# Altium footprint library HARTING Footprints.PcbLib: 317 footprints (part 8 of 20)
Each footprint in its own frame and in the unit in brackets; x right, y up, seen from the top. Pads: shape width x height; smd on the part's side, far side on the other; paste and mask are expansions set on the pad; w line width, h text height; cw(c..) or ccw(c..) is an arc to the next point about the centre after c.
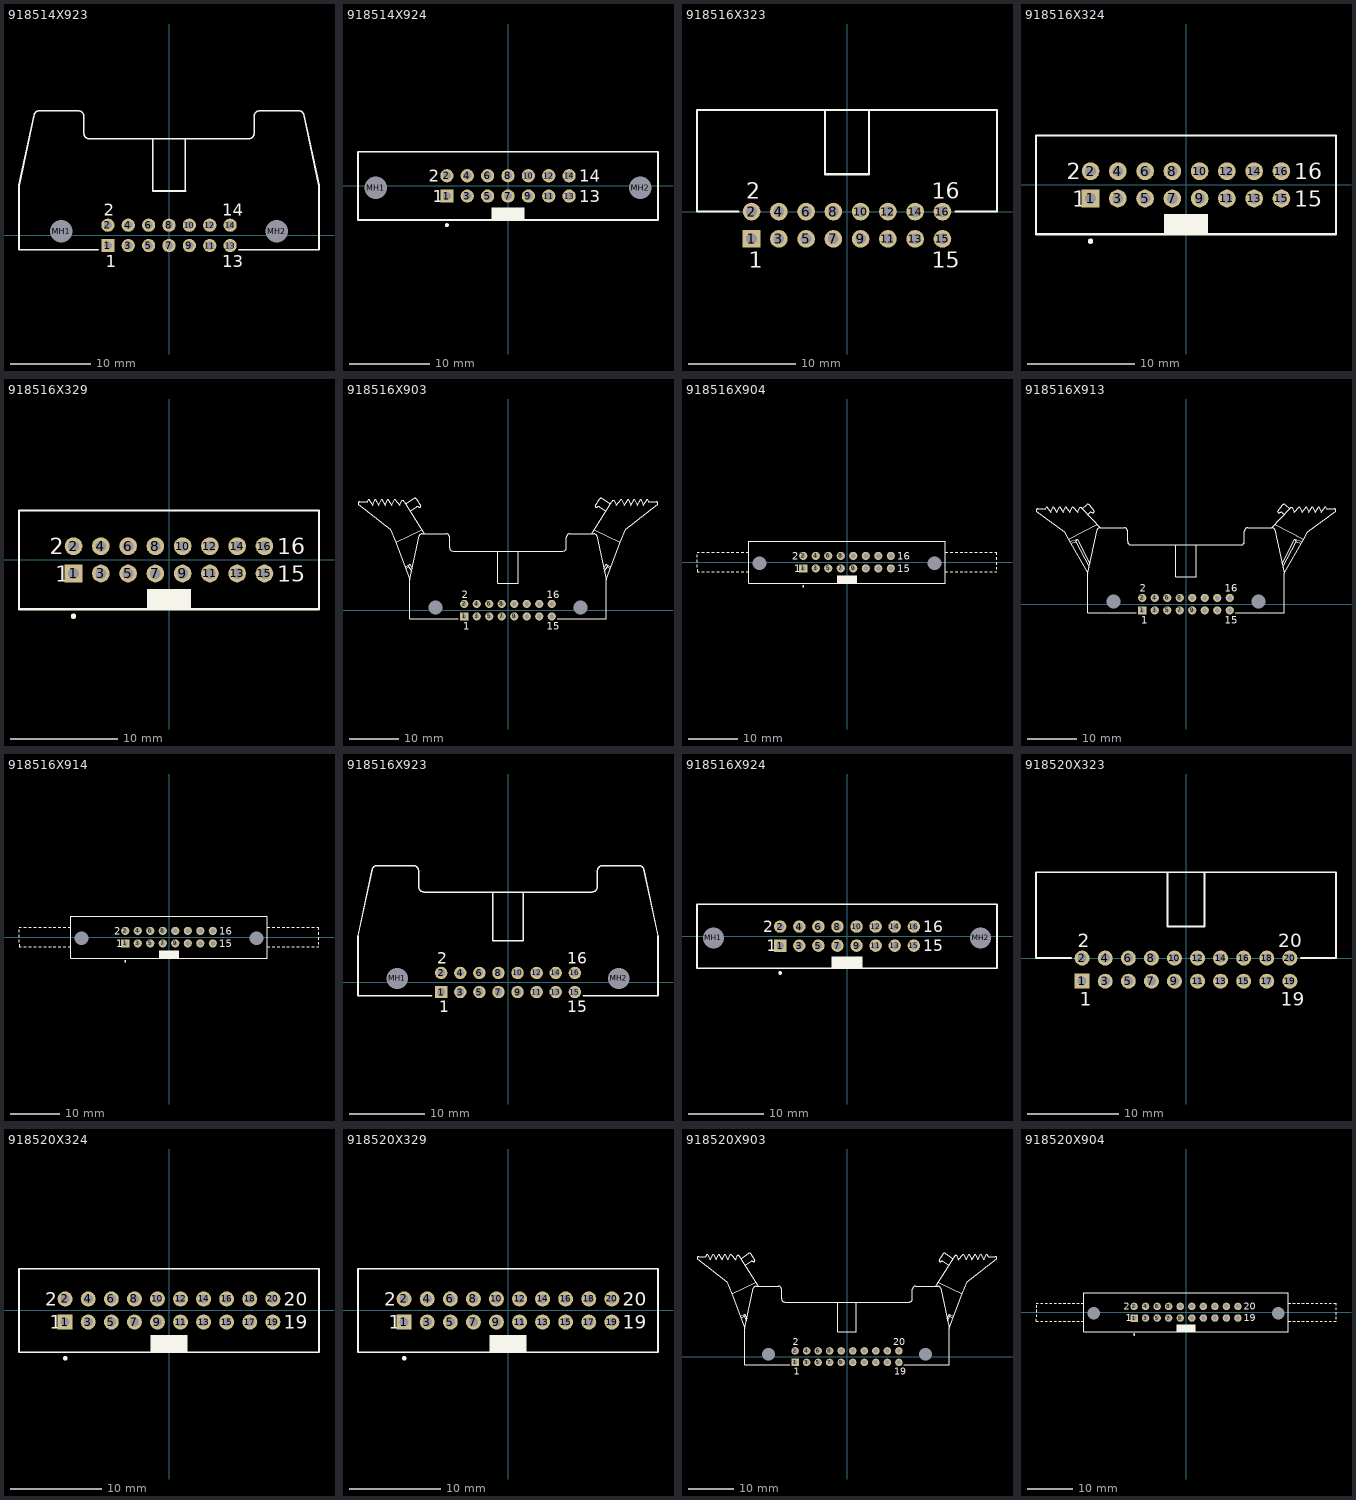
[diagram p7: the footprints below, top view; thin cyan lines are the x and y axes]

## 918514X923 [mm] "Connector; IDC, Thru-Hole; 14 Position; Right Angle; Pitch 2.54 mm; Body 37.40 x 8.5 x 17.30 mm (LxHxW), Without locking levers"
height 17.3
pads (16):
  rect 1.65x1.65 hole 1: 1(-7.62,-1.27)
  round 1.65 hole 1: 2(-7.62,1.27) 3(-5.08,-1.27) 4(-5.08,1.27) 5(-2.54,-1.27) 6(-2.54,1.27) 7(0,-1.27) 8(0,1.27) 9(2.54,-1.27) 10(2.54,1.27) 11(5.08,-1.27) 12(5.08,1.27) 13(7.62,-1.27) 14(7.62,1.27)
  round 2.5 hole 2.8 unplated: MH1(-13.46,0.53) MH2(13.46,0.53)
Top Overlay:
  lines w0.2: -8.845,-1.77 -18.7,-1.77 -18.7,6.23 -16.81,15.102 cw(c-16.165,14.83) -16.15,15.53 -11.305,15.53 cw(c-11.305,14.83) -10.605,14.83 -10.605,12.73 ccw(c-9.905,12.73) -9.905,12.03 9.905,12.03 ccw(c9.905,12.73) 10.605,12.73 10.605,14.83 cw(c11.305,14.83) 11.305,15.53 16.15,15.53 cw(c16.165,14.83) 16.81,15.102 18.7,6.23 18.7,-1.77 8.73,-1.77 ; -2.05,5.53 -2.05,12.03 ; -2.04,5.53 2.06,5.53 ; 2.05,5.534 2.05,12.03
  text "2" at -8.12,2.47 h1.5
  text "1" at -7.87,-3.97 h1.5
  text "14" at 6.62,2.47 h1.5
  text "13" at 6.62,-3.97 h1.5

## 918514X924 [mm] "Connector; IDC, Thru-Hole; 14 Position; Vertical; Pitch 2.54 mm; Body 37.40 x 8.5 x 17.30 mm (LxWxH), Without locking levers"
height 17.3
pads (16):
  rect 1.65x1.65 hole 1: 1(-7.62,-1.27)
  round 1.65 hole 1: 2(-7.62,1.27) 3(-5.08,-1.27) 4(-5.08,1.27) 5(-2.54,-1.27) 6(-2.54,1.27) 7(0,-1.27) 8(0,1.27) 9(2.54,-1.27) 10(2.54,1.27) 11(5.08,-1.27) 12(5.08,1.27) 13(7.62,-1.27) 14(7.62,1.27)
  round 2.5 hole 2.8 unplated: MH1(-16.51,-0.25) MH2(16.51,-0.25)
Top Overlay:
  circle w0.25: c-7.62,-4.9 r0.125
  rectangle: -2.05,-4.25 2.05,-2.7
  lines w0.2: -18.7,-4.25 18.7,-4.25 18.7,4.25 -18.7,4.25 -18.7,-4.25
  text "13" at 8.9,-2.02 h1.5
  text "14" at 8.9,0.52 h1.5
  text "1" at -9.4,-2.02 h1.5
  text "2" at -9.9,0.52 h1.5

## 918516X323 [mm] "Connector; IDC, Low Profile Male Header, Thru-Hole; 16 Position; Right Angle; Pitch 2.54 mm; Body 27.94 x 8.9 x 9.2 mm (LxWxH)"
height 9.2
pads (16):
  rect 1.65x1.65 hole 1: 1(-8.89,-2.54)
  round 1.65 hole 1: 2(-8.89,0) 3(-6.35,-2.54) 4(-6.35,0) 5(-3.81,-2.54) 6(-3.81,0) 7(-1.27,-2.54) 8(-1.27,0) 9(1.27,-2.54) 10(1.27,0) 11(3.81,-2.54) 12(3.81,0) 13(6.35,-2.54) 14(6.35,0) 15(8.89,-2.54) 16(8.89,0)
Top Overlay:
  lines w0.2: -10.115,0 -13.97,0 -13.97,9.45 13.97,9.45 13.97,0 10.115,0 ; -2.05,9.45 -2.05,3.48 2.05,3.48 2.05,9.45
  text "2" at -9.39,1.2 h1.5
  text "1" at -9.14,-5.24 h1.5
  text "16" at 7.89,1.2 h1.5
  text "15" at 7.89,-5.24 h1.5

## 918516X324 [mm] "Connector; IDC, Low Profile Male Header, Thru-Hole; 16 Position; Vertical; Pitch 2.54 mm; Body 27.94 x 9.2 x 9.45 mm (LxWxH)"
height 9.45
pads (16):
  rect 1.65x1.65 hole 1: 1(-8.89,-1.27)
  round 1.65 hole 1: 2(-8.89,1.27) 3(-6.35,-1.27) 4(-6.35,1.27) 5(-3.81,-1.27) 6(-3.81,1.27) 7(-1.27,-1.27) 8(-1.27,1.27) 9(1.27,-1.27) 10(1.27,1.27) 11(3.81,-1.27) 12(3.81,1.27) 13(6.35,-1.27) 14(6.35,1.27) 15(8.89,-1.27) 16(8.89,1.27)
Top Overlay:
  circle w0.25: c-8.89,-5.25 r0.125
  rectangle: -2.05,-4.6 2.05,-2.7
  lines w0.2: -13.97,-4.6 -13.97,4.6 13.97,4.6 13.97,-4.6 -13.97,-4.6
  text "2" at -11.09,0.52 h1.5
  text "1" at -10.59,-2.02 h1.5
  text "16" at 10.09,0.52 h1.5
  text "15" at 10.09,-2.02 h1.5

## 918516X329 [mm] "Connector; IDC, Straight Press-in Pin, Thru-Hole; 16 Position; Vertical; Pitch 2.54 mm; Body 27.94 x 9.2 x 9.45 mm (LxWxH)"
height 9.45
pads (16):
  rect 1.65x1.65 hole 1: 1(-8.89,-1.27)
  round 1.65 hole 1: 2(-8.89,1.27) 3(-6.35,-1.27) 4(-6.35,1.27) 5(-3.81,-1.27) 6(-3.81,1.27) 7(-1.27,-1.27) 8(-1.27,1.27) 9(1.27,-1.27) 10(1.27,1.27) 11(3.81,-1.27) 12(3.81,1.27) 13(6.35,-1.27) 14(6.35,1.27) 15(8.89,-1.27) 16(8.89,1.27)
Top Overlay:
  circle w0.25: c-8.89,-5.25 r0.125
  rectangle: -2.05,-4.6 2.05,-2.7
  lines w0.2: -13.97,-4.6 -13.97,4.6 13.97,4.6 13.97,-4.6 -13.97,-4.6
  text "2" at -11.09,0.52 h1.5
  text "1" at -10.59,-2.02 h1.5
  text "16" at 10.09,0.52 h1.5
  text "15" at 10.09,-2.02 h1.5

## 918516X903 [mm] "Connector; IDC, Thru-Hole; 16 Position; Right Angle; Pitch 2.54 mm; Body 39.90 x 8.5 x 25.75 mm (LxHxW), Locking levers"
height 25.75
pads (18):
  rect 1.65x1.65 hole 1: 1(-8.89,-1.27)
  round 1.65 hole 1: 2(-8.89,1.27) 3(-6.35,-1.27) 4(-6.35,1.27) 5(-3.81,-1.27) 6(-3.81,1.27) 7(-1.27,-1.27) 8(-1.27,1.27) 9(1.27,-1.27) 10(1.27,1.27) 11(3.81,-1.27) 12(3.81,1.27) 13(6.35,-1.27) 14(6.35,1.27) 15(8.89,-1.27) 16(8.89,1.27)
  round 2.5 hole 2.8 unplated: MH1(-14.73,0.53) MH2(14.73,0.53)
Top Overlay:
  lines w0.2: -20.92,8.851 -19.955,9.3 ; -20.791,8.563 -20.12,8.877 ; -20.785,21.6 -19.062,22.725 cw(c-18.913,22.387) -18.647,22.644 -17.722,21.245 cw(c-18.042,21.225) -18.094,20.91 ccw(c-18.362,20.595) -18.497,20.985 ; -19.863,20.103 -18.5,20.991 ; -19.593,7.925 -20.12,8.877 ; -19.493,8.378 -19.955,9.3 ; -17.565,16.383 -22.789,13.84 ; -16.994,15.53 -21.128,22.058 ccw(c-21.451,21.956) -21.593,22.265 -22,21.301 -23.03,22.501 -23.66,21.301 -24.41,22.501 -24.96,21.301 -25.66,22.501 -26.28,21.301 -26.93,22.501 -27.53,21.301 -28.275,22.501 ; -10.115,-1.77 -19.95,-1.77 -19.95,6.23 ; -2.05,5.53 -2.05,12.03 ; -2.04,5.53 2.06,5.53 ; 2.05,5.534 2.05,12.03 ; 10,-1.77 19.95,-1.77 19.95,6.23 ; 16.994,15.53 21.128,22.058 cw(c21.451,21.956) 21.593,22.265 22,21.301 23.03,22.501 23.66,21.301 24.41,22.501 24.96,21.301 25.66,22.501 26.28,21.301 26.93,22.501 27.53,21.301 28.275,22.501 ; 17.565,16.383 22.789,13.84 ; 18.497,20.985 ccw(c18.362,20.595) 18.094,20.91 cw(c18.042,21.225) 17.722,21.245 18.647,22.644 cw(c18.913,22.387) 19.062,22.725 20.785,21.6 ; 18.5,20.991 19.863,20.103 ; 19.493,8.378 19.955,9.3 ; 19.593,7.925 20.12,8.877 ; 20.791,8.563 20.12,8.877 ; 20.92,8.851 19.955,9.3 ; -28.53,22.03 -28.275,22.501 ; -28.53,22.03 -28.275,22.501 ; -28.53,22.03 -30.141,22.03 ccw(c-30.141,21.69) -30.45,21.549 -23.915,16.455 -22.789,13.84 ; -22.789,13.84 -19.95,6.23 ; -20.12,8.877 -19.955,9.3 ; -19.95,6.23 -18.06,15.102 cw(c-17.415,14.83) -17.4,15.53 -12.575,15.53 cw(c-12.575,14.83) -11.875,14.83 -11.875,12.73 ccw(c-11.175,12.73) -11.175,12.03 11.175,12.03 ccw(c11.175,12.73) 11.875,12.73 11.875,14.83 cw(c12.575,14.83) 12.575,15.53 17.4,15.53 cw(c17.415,14.83) 18.06,15.102 19.95,6.23 ; 19.95,6.23 22.789,13.84 ; 19.955,9.3 20.12,8.877 ; 22.789,13.84 23.915,16.455 30.45,21.549 ccw(c30.141,21.69) 30.141,22.03 28.53,22.03 ; 28.275,22.501 28.53,22.03 ; 28.275,22.501 28.53,22.03
  text "15" at 7.89,-3.97 h1.5
  text "16" at 7.89,2.47 h1.5
  text "1" at -9.14,-3.97 h1.5
  text "2" at -9.39,2.47 h1.5

## 918516X904 [mm] "Connector; IDC, Thru-Hole; 16 Position; Vertical; Pitch 2.54 mm; Body 39.90 x 8.5 x 25.75 mm (LxWxH), Locking levers"
height 25.75
pads (18):
  rect 1.65x1.65 hole 1: 1(-8.89,-1.27)
  round 1.65 hole 1: 2(-8.89,1.27) 3(-6.35,-1.27) 4(-6.35,1.27) 5(-3.81,-1.27) 6(-3.81,1.27) 7(-1.27,-1.27) 8(-1.27,1.27) 9(1.27,-1.27) 10(1.27,1.27) 11(3.81,-1.27) 12(3.81,1.27) 13(6.35,-1.27) 14(6.35,1.27) 15(8.89,-1.27) 16(8.89,1.27)
  round 2.5 hole 2.8 unplated: MH1(-17.78,-0.25) MH2(17.78,-0.25)
Top Overlay:
  circle w0.25: c-8.89,-4.9 r0.125
  rectangle: -2.05,-4.25 2.05,-2.7
  lines w0.2: -30.46,-1.5 -30.45,-2 -29.96,-2 ; -30.45,-1 -30.45,-0.5 ; -30.45,0 -30.45,0.5 ; -30.45,1 -30.45,1.5 ; -30.45,2 -29.96,2 ; -29.46,-2 -28.96,-2 ; -29.46,2 -28.96,2 ; -28.46,-2 -27.96,-2 ; -28.46,2 -27.96,2 ; -27.46,-2 -26.96,-2 ; -27.46,2 -26.96,2 ; -26.46,-2 -25.96,-2 ; -26.46,2 -25.96,2 ; -25.46,-2 -24.96,-2 ; -25.46,2 -24.96,2 ; -24.46,-2 -23.96,-2 ; -24.46,2 -23.96,2 ; -23.46,-2 -22.96,-2 ; -23.46,2 -22.96,2 ; -22.46,-2 -21.96,-2 ; -22.46,2 -21.96,2 ; -21.46,-2 -20.96,-2 ; -21.46,2 -20.96,2 ; -20.46,-2 -19.95,-2 ; -20.46,2 -19.95,2 ; 19.95,-2 20.45,-2 ; 19.95,2 20.45,2 ; 20.95,-2 21.45,-2 ; 20.95,2 21.45,2 ; 21.95,-2 22.45,-2 ; 21.95,2 22.45,2 ; 22.95,-2 23.45,-2 ; 22.95,2 23.45,2 ; 23.95,-2 24.45,-2 ; 23.95,2 24.45,2 ; 24.95,-2 25.45,-2 ; 24.95,2 25.45,2 ; 25.95,-2 26.45,-2 ; 25.95,2 26.45,2 ; 26.95,-2 27.45,-2 ; 26.95,2 27.45,2 ; 27.95,-2 28.45,-2 ; 27.95,2 28.45,2 ; 28.95,-2 29.45,-2 ; 28.95,2 29.45,2 ; 29.95,-2 30.45,-2 ; 29.95,2 30.45,2 30.45,1.5 ; 30.45,-1.5 30.45,-1 ; 30.45,-0.5 30.45,0 ; 30.45,0.5 30.45,1 ; -19.95,-4.25 -19.95,4.25 19.95,4.25 19.95,-4.25 -19.95,-4.25
  text "2" at -11.17,0.52 h1.5
  text "1" at -10.67,-2.02 h1.5
  text "16" at 10.17,0.52 h1.5
  text "15" at 10.17,-2.02 h1.5

## 918516X913 [mm] "Connector; IDC, Thru-Hole; 16 Position; Right Angle; Pitch 2.54 mm; Body 39.90 x 8.5 x 23.30 mm (LxHxW), Locking levers"
height 23.3
pads (18):
  rect 1.65x1.65 hole 1: 1(-8.89,-1.27)
  round 1.65 hole 1: 2(-8.89,1.27) 3(-6.35,-1.27) 4(-6.35,1.27) 5(-3.81,-1.27) 6(-3.81,1.27) 7(-1.27,-1.27) 8(-1.27,1.27) 9(1.27,-1.27) 10(1.27,1.27) 11(3.81,-1.27) 12(3.81,1.27) 13(6.35,-1.27) 14(6.35,1.27) 15(8.89,-1.27) 16(8.89,1.27)
  round 2.5 hole 2.8 unplated: MH1(-14.73,0.53) MH2(14.73,0.53)
Top Overlay:
  lines w0.2: -23.619,12.722 -22.131,13.218 ; -23.391,12.377 -22.373,12.716 ; -19.988,18.198 -19.423,18.617 cw(c-19.287,18.227) -19.02,18.542 ccw(c-18.967,18.857) -18.648,18.877 -19.707,20.156 ccw(c-19.973,19.899) -20.122,20.238 -21.128,19.388 ; -19.703,7.442 -22.373,12.716 ; -19.556,8.195 -22.131,13.218 ; -18.07,16.204 -23.889,13.199 ; -17.46,15.53 -12.575,15.53 cw(c-12.575,14.83) -11.875,14.83 -11.875,12.73 ccw(c-11.175,12.73) -11.175,12.03 11.175,12.03 ccw(c11.175,12.73) 11.875,12.73 11.875,14.83 cw(c12.575,14.83) 12.575,15.53 17.46,15.53 ; -17.457,15.533 -21.128,19.388 ; -17.4,15.53 ccw(c-17.415,14.83) -18.06,15.102 -19.95,6.23 ; -10.115,-1.77 -19.95,-1.77 -19.95,6.23 ; -2.05,5.53 -2.05,12.03 ; -2.04,5.53 2.06,5.53 ; 2.05,5.534 2.05,12.03 ; 10,-1.77 19.95,-1.77 19.95,6.23 ; 17.4,15.53 cw(c17.415,14.83) 18.06,15.102 19.95,6.23 ; 17.457,15.533 21.128,19.388 ; 18.07,16.204 23.889,13.199 ; 19.556,8.195 22.131,13.218 ; 19.703,7.442 22.373,12.716 ; 19.988,18.198 19.423,18.617 ccw(c19.287,18.227) 19.02,18.542 cw(c18.967,18.857) 18.648,18.877 19.707,20.156 cw(c19.973,19.899) 20.122,20.238 21.128,19.388 ; 23.391,12.377 22.373,12.716 ; 23.619,12.722 22.131,13.218 ; -28.53,19.359 -30.141,19.359 ccw(c-30.141,19.02) -30.45,18.879 -24.695,14.654 -23.889,13.199 ; -28.53,19.359 -28.274,19.83 ; -28.53,19.359 -28.274,19.83 ; -28.274,19.83 -27.53,18.63 -26.93,19.83 -26.28,18.63 -25.66,19.83 -24.96,18.63 -24.41,19.83 -23.66,18.63 -23.03,19.83 -22,18.63 -21.593,19.594 cw(c-21.451,19.285) -21.128,19.388 ; -23.889,13.199 -19.95,6.23 ; -22.373,12.716 -22.131,13.218 ; 19.95,6.23 23.889,13.199 ; 21.128,19.388 cw(c21.451,19.285) 21.593,19.594 22,18.63 23.03,19.83 23.66,18.63 24.41,19.83 24.96,18.63 25.66,19.83 26.28,18.63 26.93,19.83 27.53,18.63 28.274,19.83 ; 22.131,13.218 22.373,12.716 ; 23.889,13.199 24.695,14.654 30.45,18.879 ccw(c30.141,19.02) 30.141,19.359 28.53,19.359 ; 28.274,19.83 28.53,19.359 ; 28.274,19.83 28.53,19.359
  text "15" at 7.89,-3.97 h1.5
  text "16" at 7.89,2.47 h1.5
  text "1" at -9.14,-3.97 h1.5
  text "2" at -9.39,2.47 h1.5

## 918516X914 [mm] "Connector; IDC, Thru-Hole; 16 Position; Vertical; Pitch 2.54 mm; Body 39.90 x 8.5 x 23.30 mm (LxWxH), Locking levers"
height 23.3
pads (18):
  rect 1.65x1.65 hole 1: 1(-8.89,-1.27)
  round 1.65 hole 1: 2(-8.89,1.27) 3(-6.35,-1.27) 4(-6.35,1.27) 5(-3.81,-1.27) 6(-3.81,1.27) 7(-1.27,-1.27) 8(-1.27,1.27) 9(1.27,-1.27) 10(1.27,1.27) 11(3.81,-1.27) 12(3.81,1.27) 13(6.35,-1.27) 14(6.35,1.27) 15(8.89,-1.27) 16(8.89,1.27)
  round 2.5 hole 2.8 unplated: MH1(-17.78,-0.25) MH2(17.78,-0.25)
Top Overlay:
  circle w0.25: c-8.89,-4.9 r0.125
  rectangle: -2.05,-4.25 2.05,-2.7
  lines w0.2: -30.46,-1.5 -30.45,-2 -29.96,-2 ; -30.45,-1 -30.45,-0.5 ; -30.45,0 -30.45,0.5 ; -30.45,1 -30.45,1.5 ; -30.45,2 -29.96,2 ; -29.46,-2 -28.96,-2 ; -29.46,2 -28.96,2 ; -28.46,-2 -27.96,-2 ; -28.46,2 -27.96,2 ; -27.46,-2 -26.96,-2 ; -27.46,2 -26.96,2 ; -26.46,-2 -25.96,-2 ; -26.46,2 -25.96,2 ; -25.46,-2 -24.96,-2 ; -25.46,2 -24.96,2 ; -24.46,-2 -23.96,-2 ; -24.46,2 -23.96,2 ; -23.46,-2 -22.96,-2 ; -23.46,2 -22.96,2 ; -22.46,-2 -21.96,-2 ; -22.46,2 -21.96,2 ; -21.46,-2 -20.96,-2 ; -21.46,2 -20.96,2 ; -20.46,-2 -19.95,-2 ; -20.46,2 -19.95,2 ; 19.95,-2 20.45,-2 ; 19.95,2 20.45,2 ; 20.95,-2 21.45,-2 ; 20.95,2 21.45,2 ; 21.95,-2 22.45,-2 ; 21.95,2 22.45,2 ; 22.95,-2 23.45,-2 ; 22.95,2 23.45,2 ; 23.95,-2 24.45,-2 ; 23.95,2 24.45,2 ; 24.95,-2 25.45,-2 ; 24.95,2 25.45,2 ; 25.95,-2 26.45,-2 ; 25.95,2 26.45,2 ; 26.95,-2 27.45,-2 ; 26.95,2 27.45,2 ; 27.95,-2 28.45,-2 ; 27.95,2 28.45,2 ; 28.95,-2 29.45,-2 ; 28.95,2 29.45,2 ; 29.95,-2 30.45,-2 ; 29.95,2 30.45,2 30.45,1.5 ; 30.45,-1.5 30.45,-1 ; 30.45,-0.5 30.45,0 ; 30.45,0.5 30.45,1 ; -19.95,-4.25 -19.95,4.25 19.95,4.25 19.95,-4.25 -19.95,-4.25
  text "2" at -11.17,0.52 h1.5
  text "1" at -10.67,-2.02 h1.5
  text "16" at 10.17,0.52 h1.5
  text "15" at 10.17,-2.02 h1.5

## 918516X923 [mm] "Connector; IDC, Thru-Hole; 16 Position; Right Angle; Pitch 2.54 mm; Body 39.90 x 8.5 x 17.30 mm (LxHxW), Without locking levers"
height 17.3
pads (18):
  rect 1.65x1.65 hole 1: 1(-8.89,-1.27)
  round 1.65 hole 1: 2(-8.89,1.27) 3(-6.35,-1.27) 4(-6.35,1.27) 5(-3.81,-1.27) 6(-3.81,1.27) 7(-1.27,-1.27) 8(-1.27,1.27) 9(1.27,-1.27) 10(1.27,1.27) 11(3.81,-1.27) 12(3.81,1.27) 13(6.35,-1.27) 14(6.35,1.27) 15(8.89,-1.27) 16(8.89,1.27)
  round 2.5 hole 2.8 unplated: MH1(-14.73,0.53) MH2(14.73,0.53)
Top Overlay:
  lines w0.2: -10.115,-1.77 -19.95,-1.77 -19.95,6.23 -18.06,15.102 cw(c-17.415,14.83) -17.4,15.53 -12.575,15.53 cw(c-12.575,14.83) -11.875,14.83 -11.875,12.73 ccw(c-11.175,12.73) -11.175,12.03 11.175,12.03 ccw(c11.175,12.73) 11.875,12.73 11.875,14.83 cw(c12.575,14.83) 12.575,15.53 17.4,15.53 cw(c17.415,14.83) 18.06,15.102 19.95,6.23 19.95,-1.77 10,-1.77 ; -2.05,5.53 -2.05,12.03 ; -2.04,5.53 2.06,5.53 ; 2.05,5.534 2.05,12.03
  text "15" at 7.89,-3.97 h1.5
  text "16" at 7.89,2.47 h1.5
  text "1" at -9.14,-3.97 h1.5
  text "2" at -9.39,2.47 h1.5

## 918516X924 [mm] "Connector; IDC, Thru-Hole; 16 Position; Vertical; Pitch 2.54 mm; Body 39.90 x 8.5 x 17.30 mm (LxWxH), Without locking levers"
height 17.3
pads (18):
  rect 1.65x1.65 hole 1: 1(-8.89,-1.27)
  round 1.65 hole 1: 2(-8.89,1.27) 3(-6.35,-1.27) 4(-6.35,1.27) 5(-3.81,-1.27) 6(-3.81,1.27) 7(-1.27,-1.27) 8(-1.27,1.27) 9(1.27,-1.27) 10(1.27,1.27) 11(3.81,-1.27) 12(3.81,1.27) 13(6.35,-1.27) 14(6.35,1.27) 15(8.89,-1.27) 16(8.89,1.27)
  round 2.5 hole 2.8 unplated: MH1(-17.78,-0.25) MH2(17.78,-0.25)
Top Overlay:
  circle w0.25: c-8.89,-4.9 r0.125
  rectangle: -2.05,-4.25 2.05,-2.7
  lines w0.2: -19.95,-4.25 19.95,-4.25 19.95,4.25 -19.95,4.25 -19.95,-4.25
  text "15" at 10.17,-2.02 h1.5
  text "16" at 10.17,0.52 h1.5
  text "1" at -10.67,-2.02 h1.5
  text "2" at -11.17,0.52 h1.5

## 918520X323 [mm] "Connector; IDC, Low Profile Male Header, Thru-Hole; 20 Position; Right Angle; Pitch 2.54 mm; Body 33.02 x 8.9 x 9.2 mm (LxWxH)"
height 9.2
pads (20):
  rect 1.65x1.65 hole 1: 1(-11.43,-2.54)
  round 1.65 hole 1: 2(-11.43,0) 3(-8.89,-2.54) 4(-8.89,0) 5(-6.35,-2.54) 6(-6.35,0) 7(-3.81,-2.54) 8(-3.81,0) 9(-1.27,-2.54) 10(-1.27,0) 11(1.27,-2.54) 12(1.27,0) 13(3.81,-2.54) 14(3.81,0) 15(6.35,-2.54) 16(6.35,0) 17(8.89,-2.54) 18(8.89,0) 19(11.43,-2.54) 20(11.43,0)
Top Overlay:
  lines w0.2: -12.655,0 -16.51,0 -16.51,9.45 16.51,9.45 16.51,0 12.655,0 ; -2.05,9.45 -2.05,3.48 2.05,3.48 2.05,9.45
  text "2" at -11.93,1.2 h1.5
  text "1" at -11.68,-5.24 h1.5
  text "20" at 10.18,1.2 h1.5
  text "19" at 10.43,-5.24 h1.5

## 918520X324 [mm] "Connector; IDC, Low Profile Male Header, Thru-Hole; 20 Position; Vertical; Pitch 2.54 mm; Body 33.02 x 9.2 x 9.45 mm (LxWxH)"
height 9.45
pads (20):
  rect 1.65x1.65 hole 1: 1(-11.43,-1.27)
  round 1.65 hole 1: 2(-11.43,1.27) 3(-8.89,-1.27) 4(-8.89,1.27) 5(-6.35,-1.27) 6(-6.35,1.27) 7(-3.81,-1.27) 8(-3.81,1.27) 9(-1.27,-1.27) 10(-1.27,1.27) 11(1.27,-1.27) 12(1.27,1.27) 13(3.81,-1.27) 14(3.81,1.27) 15(6.35,-1.27) 16(6.35,1.27) 17(8.89,-1.27) 18(8.89,1.27) 19(11.43,-1.27) 20(11.43,1.27)
Top Overlay:
  circle w0.25: c-11.43,-5.25 r0.125
  rectangle: -2.05,-4.6 2.05,-2.7
  lines w0.2: -16.51,-4.6 16.51,-4.6 16.51,4.6 -16.51,4.6 -16.51,-4.6
  text "19" at 12.63,-2.02 h1.5
  text "20" at 12.63,0.52 h1.5
  text "1" at -13.13,-2.02 h1.5
  text "2" at -13.63,0.52 h1.5

## 918520X329 [mm] "Connector; IDC, Straight Press-in Pin, Thru-Hole; 20 Position; Vertical; Pitch 2.54 mm; Body 33.02 x 9.2 x 9.45 mm (LxWxH)"
height 9.45
pads (20):
  rect 1.65x1.65 hole 1: 1(-11.43,-1.27)
  round 1.65 hole 1: 2(-11.43,1.27) 3(-8.89,-1.27) 4(-8.89,1.27) 5(-6.35,-1.27) 6(-6.35,1.27) 7(-3.81,-1.27) 8(-3.81,1.27) 9(-1.27,-1.27) 10(-1.27,1.27) 11(1.27,-1.27) 12(1.27,1.27) 13(3.81,-1.27) 14(3.81,1.27) 15(6.35,-1.27) 16(6.35,1.27) 17(8.89,-1.27) 18(8.89,1.27) 19(11.43,-1.27) 20(11.43,1.27)
Top Overlay:
  circle w0.25: c-11.43,-5.25 r0.125
  rectangle: -2.05,-4.6 2.05,-2.7
  lines w0.2: -16.51,-4.6 16.51,-4.6 16.51,4.6 -16.51,4.6 -16.51,-4.6
  text "19" at 12.63,-2.02 h1.5
  text "20" at 12.63,0.52 h1.5
  text "1" at -13.13,-2.02 h1.5
  text "2" at -13.63,0.52 h1.5

## 918520X903 [mm] "Connector; IDC, Thru-Hole; 20 Position; Right Angle; Pitch 2.54 mm; Body 45.00 x 8.5 x 25.75 mm (LxHxW), Locking levers"
height 25.75
pads (22):
  rect 1.65x1.65 hole 1: 1(-11.43,-1.27)
  round 1.65 hole 1: 2(-11.43,1.27) 3(-8.89,-1.27) 4(-8.89,1.27) 5(-6.35,-1.27) 6(-6.35,1.27) 7(-3.81,-1.27) 8(-3.81,1.27) 9(-1.27,-1.27) 10(-1.27,1.27) 11(1.27,-1.27) 12(1.27,1.27) 13(3.81,-1.27) 14(3.81,1.27) 15(6.35,-1.27) 16(6.35,1.27) 17(8.89,-1.27) 18(8.89,1.27) 19(11.43,-1.27) 20(11.43,1.27)
  round 2.5 hole 2.8 unplated: MH1(-17.27,0.53) MH2(17.27,0.53)
Top Overlay:
  lines w0.2: -23.47,8.851 -22.505,9.3 ; -23.341,8.563 -22.67,8.877 ; -23.335,21.6 -21.612,22.725 cw(c-21.463,22.387) -21.197,22.644 -20.272,21.245 cw(c-20.592,21.225) -20.644,20.91 ccw(c-20.912,20.595) -21.047,20.985 ; -22.413,20.103 -21.05,20.991 ; -22.143,7.925 -22.67,8.877 ; -22.043,8.378 -22.505,9.3 ; -20.61,15.102 -22.5,6.23 ; -20.61,15.102 cw(c-19.965,14.83) -19.95,15.53 ; -20.115,16.383 -25.339,13.84 ; -19.94,15.53 -15.115,15.53 ; -19.544,15.53 -23.678,22.058 ccw(c-24.001,21.956) -24.143,22.265 -24.55,21.301 -25.58,22.501 -26.21,21.301 -26.96,22.501 -27.51,21.301 -28.21,22.501 -28.83,21.301 -29.48,22.501 -30.08,21.301 -30.825,22.501 ; -15.115,15.53 cw(c-15.115,14.83) -14.415,14.83 -14.415,12.73 ccw(c-13.715,12.73) -13.715,12.03 13.715,12.03 ccw(c13.715,12.73) 14.415,12.73 14.415,14.83 cw(c15.115,14.83) 15.115,15.53 19.94,15.53 ; -12.655,-1.77 -22.5,-1.77 -22.5,6.23 ; -2.05,5.53 -2.05,12.03 ; -2.04,5.53 2.06,5.53 ; 2.05,5.534 2.05,12.03 ; 12.54,-1.77 22.5,-1.77 22.5,6.23 ; 19.544,15.53 23.678,22.058 cw(c24.001,21.956) 24.143,22.265 24.55,21.301 25.58,22.501 26.21,21.301 26.96,22.501 27.51,21.301 28.21,22.501 28.83,21.301 29.48,22.501 30.08,21.301 30.825,22.501 ; 19.95,15.53 cw(c19.965,14.83) 20.61,15.102 22.5,6.23 ; 20.115,16.383 25.339,13.84 ; 21.047,20.985 ccw(c20.912,20.595) 20.644,20.91 cw(c20.592,21.225) 20.272,21.245 21.197,22.644 cw(c21.463,22.387) 21.612,22.725 23.335,21.6 ; 21.05,20.991 22.413,20.103 ; 22.043,8.378 22.505,9.3 ; 22.143,7.925 22.67,8.877 ; 23.341,8.563 22.67,8.877 ; 23.47,8.851 22.505,9.3 ; -31.08,22.03 -32.691,22.03 ccw(c-32.691,21.69) -33,21.549 -26.465,16.455 -25.339,13.84 ; -31.08,22.03 -30.825,22.501 ; -31.08,22.03 -30.825,22.501 ; -25.339,13.84 -22.5,6.23 ; -22.67,8.877 -22.505,9.3 ; 22.5,6.23 25.339,13.84 ; 22.505,9.3 22.67,8.877 ; 25.339,13.84 26.465,16.455 33,21.549 ccw(c32.691,21.69) 32.691,22.03 31.08,22.03 ; 30.825,22.501 31.08,22.03 ; 30.825,22.501 31.08,22.03
  text "2" at -11.93,2.47 h1.5
  text "1" at -11.68,-3.97 h1.5
  text "20" at 10.18,2.47 h1.5
  text "19" at 10.43,-3.97 h1.5

## 918520X904 [mm] "Connector; IDC, Thru-Hole; 20 Position; Vertical; Pitch 2.54 mm; Body 45.00 x 8.5 x 25.75 mm (LxWxH), Locking levers"
height 25.75
pads (22):
  rect 1.65x1.65 hole 1: 1(-11.43,-1.27)
  round 1.65 hole 1: 2(-11.43,1.27) 3(-8.89,-1.27) 4(-8.89,1.27) 5(-6.35,-1.27) 6(-6.35,1.27) 7(-3.81,-1.27) 8(-3.81,1.27) 9(-1.27,-1.27) 10(-1.27,1.27) 11(1.27,-1.27) 12(1.27,1.27) 13(3.81,-1.27) 14(3.81,1.27) 15(6.35,-1.27) 16(6.35,1.27) 17(8.89,-1.27) 18(8.89,1.27) 19(11.43,-1.27) 20(11.43,1.27)
  round 2.5 hole 2.8 unplated: MH1(-20.32,-0.25) MH2(20.32,-0.25)
Top Overlay:
  circle w0.25: c-11.43,-4.9 r0.125
  rectangle: -2.05,-4.25 2.05,-2.7
  lines w0.2: -33.01,-0.5 -33,-1 ; -33.01,0.5 -33,0 ; -33.01,1.5 -33,1 ; -33,-1.5 -33,-2 -32.5,-2 ; -33,2 -32.5,2 ; -32,-2 -31.5,-2 ; -32,2 -31.5,2 ; -31,-2 -30.5,-2 ; -31,2 -30.5,2 ; -30,-2 -29.5,-2 ; -30,2 -29.5,2 ; -29,-2 -28.5,-2 ; -29,2 -28.5,2 ; -28,-2 -27.5,-2 ; -28,2 -27.5,2 ; -27,-2 -26.5,-2 ; -27,2 -26.5,2 ; -26,-2 -25.5,-2 ; -26,2 -25.5,2 ; -25,-2 -24.5,-2 ; -25,2 -24.5,2 ; -24,-2 -23.5,-2 ; -24,2 -23.5,2 ; -23,-2 -22.5,-2 ; -23,2 -22.5,2 ; 22.5,-2 23,-2 ; 22.5,2 23,2 ; 23.5,-2 24,-2 ; 23.5,2 24,2 ; 24.5,-2 25,-2 ; 24.5,2 25,2 ; 25.5,-2 26,-2 ; 25.5,2 26,2 ; 26.5,-2 27,-2 ; 26.5,2 27,2 ; 27.5,-2 28,-2 ; 27.5,2 28,2 ; 28.5,-2 29,-2 ; 28.5,2 29,2 ; 29.5,-2 30,-2 ; 29.5,2 30,2 ; 30.5,-2 31,-2 ; 30.5,2 31,2 ; 31.5,-2 32,-2 ; 31.5,2 32,2 ; 32.5,-2 33,-2 ; 32.5,2 33,2 33,1.5 ; 33,-1.5 33,-1 ; 33,-0.5 33,0 ; 33,0.5 33,1 ; -22.5,-4.25 -22.5,4.25 22.5,4.25 22.5,-4.25 -22.5,-4.25
  text "2" at -13.71,0.52 h1.5
  text "1" at -13.21,-2.02 h1.5
  text "20" at 12.71,0.52 h1.5
  text "19" at 12.71,-2.02 h1.5